# Altium footprint library SIP10.PcbLib: 1 footprints
Each footprint in its own frame and in the unit in brackets; x right, y up, seen from the top. Pads: shape width x height; smd on the part's side, far side on the other; paste and mask are expansions set on the pad; w line width, h text height; cw(c..) or ccw(c..) is an arc to the next point about the centre after c.
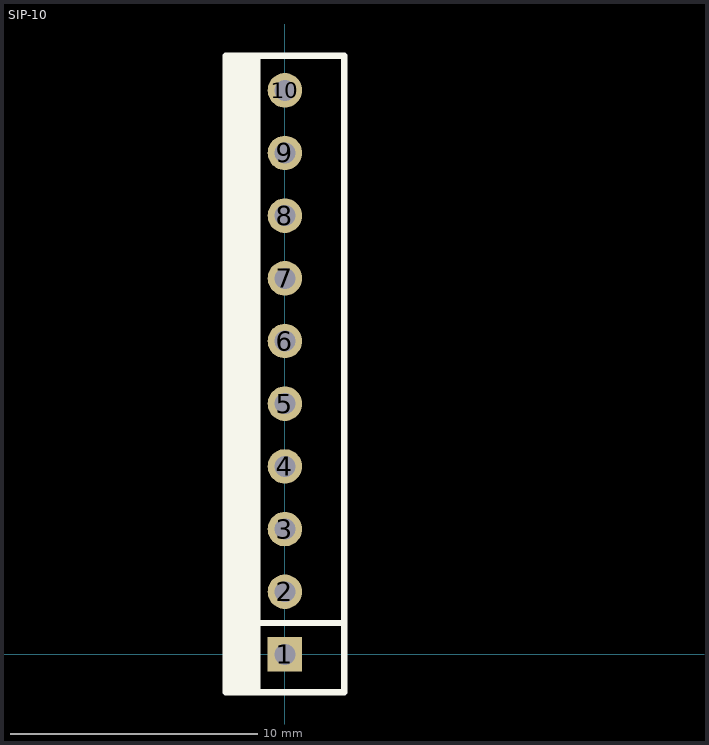
[diagram p0: the footprint, top view; thin cyan lines are the x and y axes]

## SIP-10 [mm]
pads (10):
  rect 1.4x1.4 hole 0.85: 1(0,0)
  round 1.4 hole 0.85: 2(0,2.54) 3(0,5.08) 4(0,7.62) 5(0,10.16) 6(0,12.7) 7(0,15.24) 8(0,17.78) 9(0,20.32) 10(0,22.86)
Top Layer:
  region: 8.001,22.86
Top Overlay:
  region: -2.4,24.257 -2.4,-1.53 -1,-1.53 -1,24.257
  lines w0.254: -1.524,1.27 2.413,1.27 ; -2.4,-1.53 -2.4,24.257 2.4,24.257 2.4,-1.53 -2.4,-1.53
3D body: height 16.51, standoff 6.35, extent -2.54,-1.651 2.413,24.384
3D body: height 3.94, standoff -1.14, extent -0.353,-0.355 0.356,0.355
3D body: height 3.94, standoff -1.14, extent -0.353,2.185 0.356,2.895
3D body: height 3.94, standoff -1.14, extent -0.353,4.725 0.356,5.435
3D body: height 3.94, standoff -1.14, extent -0.353,7.265 0.356,7.975
3D body: height 3.94, standoff -1.14, extent -0.353,9.805 0.356,10.515
3D body: height 3.94, standoff -1.14, extent -0.353,12.345 0.356,13.055
3D body: height 3.94, standoff -1.14, extent -0.353,14.885 0.356,15.595
3D body: height 3.94, standoff -1.14, extent -0.353,17.425 0.356,18.135
3D body: height 3.94, standoff -1.14, extent -0.353,19.965 0.356,20.675
3D body: height 3.94, standoff -1.14, extent -0.353,22.505 0.356,23.215